# Altium footprint library CIrk.PcbLib: 9 footprints
Each footprint in its own frame and in the unit in brackets; x right, y up, seen from the top. Pads: shape width x height; smd on the part's side, far side on the other; paste and mask are expansions set on the pad; w line width, h text height; cw(c..) or ccw(c..) is an arc to the next point about the centre after c.
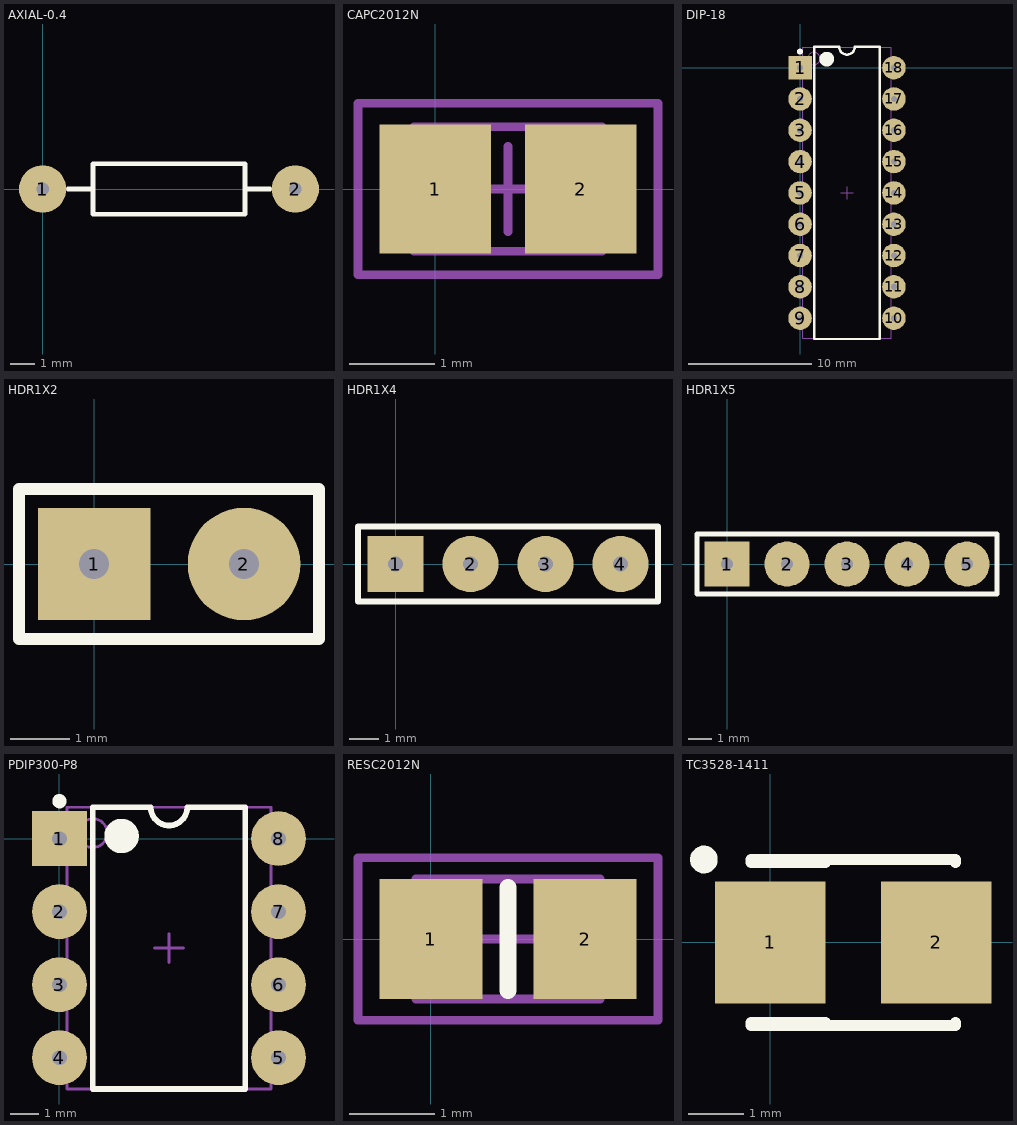
[diagram p0: the footprints below, top view; thin cyan lines are the x and y axes]

## AXIAL-0.4 [mil] "Axial Device, Thru-Hole; 2 Leads; 0.4 in Pin Spacing"
height 80
pads (2):
  round 75 hole 20: 1(0,0) 2(400,0)
Top Overlay:
  lines w7.87: 40,0 80,0 ; 320,0 360,0 ; 80,-40 80,40 320,40 320,-40 80,-40

## CAPC2012N [mm] "Chip Capacitor, Body 2.0x1.3mm, IPC Medium Density"
height 1.1
pads (2):
  rect 1.3x1.5 smd: 1(0,0) 2(1.7,0)
Mechanical 13:
  lines w0.1: -0.25,-0.725 1.95,-0.725 1.95,0.725 -0.25,0.725 -0.25,-0.725
Mechanical 15:
  lines w0.1: 0.35,0 1.35,0 ; 0.85,-0.5 0.85,0.5 ; -0.9,-1 2.6,-1 2.6,1 -0.9,1 -0.9,-1
3D body: height 1.1, standoff 0, extent -0.25,-0.725 1.95,0.725

## DIP-18 [mil] "DIP; 18 Leads; Row Spacing 7.62 mm; Pitch 2.54 mm"
height 200
pads (18):
  rect 75x75 hole 20: 1(0,0)
  round 75 hole 20: 2(0,-100) 3(0,-200) 4(0,-300) 5(0,-400) 6(0,-500) 7(0,-600) 8(0,-700) 9(0,-800) 10(300,-800) 11(300,-700) 12(300,-600) 13(300,-500) 14(300,-400) 15(300,-300) 16(300,-200) 17(300,-100) 18(300,0)
Top Overlay:
  circle w9.84: c0,51.18 r4.92
  circle w23.62: c85.04,27.17 r11.81
  lines w7.87: 45.67,-866.54 45.67,66.54 125,66.54 ccw(c150,66.54) 175,66.54 254.33,66.54 254.33,-866.54 45.67,-866.54
Mechanical 13:
  circle w3.94: c43.7,29.13 r19.68
  lines w3.94: 8.27,-864.57 8.27,64.57 291.73,64.57 291.73,-864.57 8.27,-864.57
Mechanical 15:
  lines w3.94: 130.32,-400 169.69,-400 ; 150,-419.68 150,-380.31
3D body: height 200, standoff 0, extent 8.27,-864.57 291.73,64.57

## HDR1X2 [mil] "Connector; Header; 2 Position"
height 501.97
pads (2):
  rect 75x75 hole 20: 1(0,0)
  round 75 hole 20: 2(100,0)
Top Overlay:
  lines w7.87: -50,-50 150,-50 150,50 -50,50 -50,-50

## HDR1X4 [mil] "Connector; Header; 4 Position"
height 501.97
pads (4):
  rect 75x75 hole 20: 1(0,0)
  round 75 hole 20: 2(100,0) 3(200,0) 4(300,0)
Top Overlay:
  lines w7.87: -50,-50 -50,50 350,50 350,-50 -50,-50

## HDR1X5 [mil] "Connector; Header; 5 Position"
pads (5):
  rect 75x75 hole 20: 1(0,0)
  round 75 hole 20: 2(100,0) 3(200,0) 4(300,0) 5(400,0)
Top Overlay:
  lines w7.87: -50,-50 -50,50 450,50 450,-50 -50,-50

## PDIP300-P8 [mil] "DIP, 8-Leads, Row Spacing 7.62mm, Pitch 2.54mm, Body 9.5x6.6mm"
height 210.24
pads (8):
  rect 75x75 hole 20: 1(0,0)
  round 75 hole 20: 2(0,-100) 3(0,-200) 4(0,-300) 5(300,-300) 6(300,-200) 7(300,-100) 8(300,0)
Top Overlay:
  circle w23.62: c85.04,3.54 r11.81
  circle w9.84: c0,51.18 r4.92
  lines w7.87: 45.67,-342.91 254.33,-342.91 254.33,42.91 175,42.91 cw(c150,42.91) 125,42.91 45.67,42.91 45.67,-342.91
Mechanical 13:
  circle w3.94: c45.67,7.48 r19.68
  lines w3.94: 10.24,-342.91 289.76,-342.91 289.76,42.91 10.24,42.91 10.24,-342.91
Mechanical 15:
  lines w3.94: 130.32,-150 169.69,-150 ; 150,-169.68 150,-130.31
3D body: height 210.24, standoff 0, extent 10.24,-342.91 289.76,42.91

## RESC2012N [mm] "Chip Resistor, Body 2.0x1.3mm, IPC Medium Density"
height 0.65
pads (2):
  rect 1.2x1.4 smd: 1(0,0) 2(1.8,0)
Top Overlay:
  lines w0.2: 0.9,-0.6 0.9,0.6
Mechanical 13:
  lines w0.1: -0.175,-0.7 -0.175,0.7 1.975,0.7 1.975,-0.7 -0.175,-0.7
Mechanical 15:
  lines w0.1: 0.4,0 1.4,0 ; 0.9,-0.5 0.9,0.5 ; -0.85,-0.95 -0.85,0.95 2.65,0.95 2.65,-0.95 -0.85,-0.95
3D body: height 0.65, standoff 0, extent -0.175,-0.7 1.975,0.7

## TC3528-1411 [mm] "Capacitor, SM Tantalum; Body 3.5 x 2.8 mm (LxW typ)"
height 2.5
pads (2):
  rect 2x2.2 smd: 1(0,0) 2(3,0)
Top Overlay:
  circle w0.25: c-1.2,1.5 r0.125
  lines w0.2: -0.35,-1.5 3.35,-1.5 3.35,-1.45 ; -0.35,-1.45 1,-1.45 ; -0.35,1.45 1,1.45 ; -0.35,1.5 3.35,1.5 3.35,1.45